# Altium footprint library TESEO-LIV3R.PcbLib: 1 footprints
Each footprint in its own frame and in the unit in brackets; x right, y up, seen from the top. Pads: shape width x height; smd on the part's side, far side on the other; paste and mask are expansions set on the pad; w line width, h text height; cw(c..) or ccw(c..) is an arc to the next point about the centre after c.
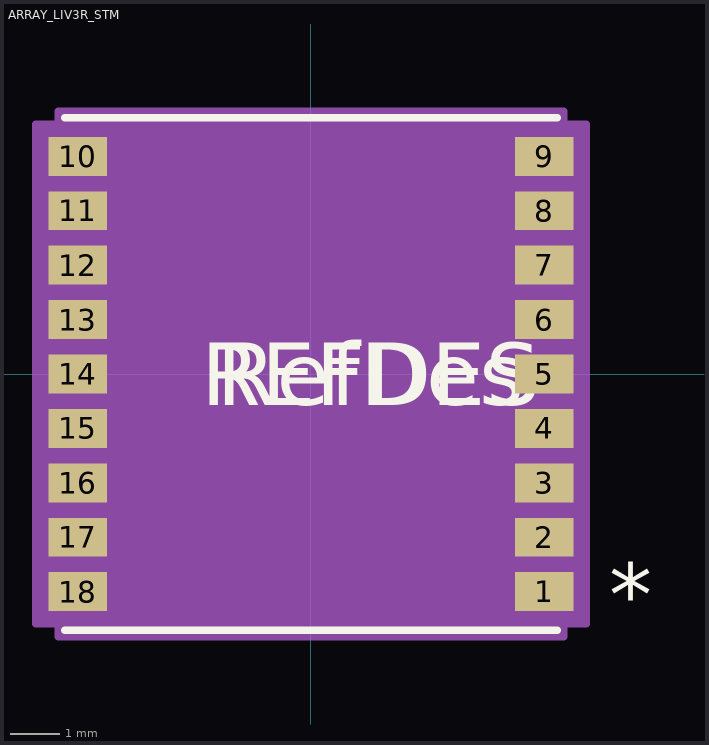
[diagram p0: the footprint, top view; thin cyan lines are the x and y axes]

## ARRAY_LIV3R_STM [mil]
pads (18):
  rect 46.5x31 smd paste+0 mask+0: 1(185.75,-173.23) 2(185.75,-129.92) 3(185.75,-86.61) 4(185.75,-43.31) 5(185.75,0) 6(185.75,43.31) 7(185.75,86.61) 8(185.75,129.92) 9(185.75,173.23) 10(-185.75,173.23) 11(-185.75,129.92) 12(-185.75,86.61) 13(-185.75,43.31) 14(-185.75,0) 15(-185.75,-43.31) 16(-185.75,-86.61) 17(-185.75,-129.92) 18(-185.75,-173.23)
Top Overlay:
  lines w6: -196,-204 196,-204 ; -196,204 196,204
  text "*" at 237.5,-200 h50
  text "RefDes" at -75,-25 h50
  text "REFDES" at -87.5,-25 h50
Mechanical 13:
  lines w0: -191,-188.98 ccw(c-191,-173.23) -191,-157.48 ; -191,-145.67 ccw(c-191,-129.92) -191,-114.17 ; -191,-102.36 ccw(c-191,-86.61) -191,-70.87 ; -191,-59.06 ccw(c-191,-43.31) -191,-27.56 ; -191,-15.75 ccw(c-191,0) -191,15.75 ; -191,27.56 ccw(c-191,43.31) -191,59.06 ; -191,70.87 ccw(c-191,86.61) -191,102.36 ; -191,114.17 ccw(c-191,129.92) -191,145.67 ; -191,157.48 ccw(c-191,173.23) -191,188.98 ; 191,-188.98 cw(c191,-173.23) 191,-157.48 ; 191,-145.67 cw(c191,-129.92) 191,-114.17 ; 191,-102.36 cw(c191,-86.61) 191,-70.87 ; 191,-59.06 cw(c191,-43.31) 191,-27.56 ; 191,-15.75 cw(c191,0) 191,15.75 ; 191,27.56 cw(c191,43.31) 191,59.06 ; 191,70.87 cw(c191,86.61) 191,102.36 ; 191,114.17 cw(c191,129.92) 191,145.67 ; 191,157.48 cw(c191,173.23) 191,188.98
  lines w1: -191,-188.98 -191,-199 191,-199 191,-188.98 ; -191,-157.48 -191,-145.67 ; -191,-114.17 -191,-102.36 ; -191,-70.87 -191,-59.06 ; -191,-27.56 -191,-15.75 ; -191,15.75 -191,27.56 ; -191,59.06 -191,70.87 ; -191,102.36 -191,114.17 ; -191,145.67 -191,157.48 ; -181,199 -191,189 -191,199 191,199 191,188.98 ; 191,-157.48 191,-145.67 ; 191,-114.17 191,-102.36 ; 191,-70.87 191,-59.06 ; 191,-27.56 191,-15.75 ; 191,15.75 191,27.56 ; 191,59.06 191,70.87 ; 191,102.36 191,114.17 ; 191,145.67 191,157.48
  text "*" at 162.5,-275 h50
  text "RefDes2" at -87.5,-25 h50
Mechanical 15:
  region: -201,-198.73 -219,-198.73 -219,198.73 -201,198.73 -201,209 201,209 201,198.73 219,198.73 219,-198.73 201,-198.73 201,-209 -201,-209
  lines w6: -219,-198.73 -219,198.73 -201,198.73 -201,209 201,209 201,198.73 219,198.73 219,-198.73 201,-198.73 201,-209 -201,-209 -201,-198.73 -219,-198.73